# EAGLE library part TJA1050 (library can_driver)
High speed CAN transceiver Input levels compatible with 3.3 V and 5 V devices 5V supply
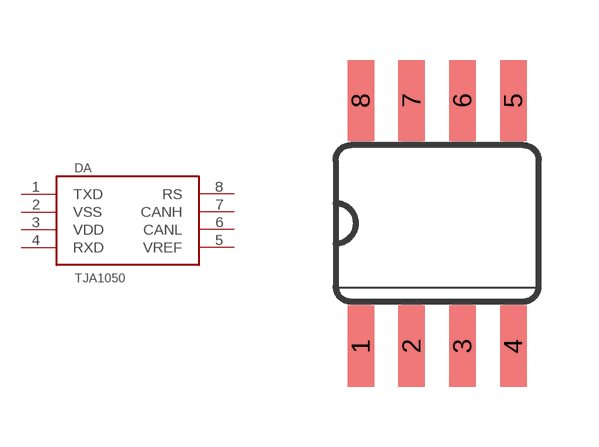
[diagram p3: symbol with the pads of SO08; footprint SO08]

Designator prefix DA

## TJA1050  [SO08]
1  TXD  in
2  VSS  pwr
3  VDD  pwr
4  RXD  out
5  VREF  pas
6  CANL
7  CANH
8  RS  in

## Footprint SO08 (pad centres in mm)
Small Outline Package
smd 0.66 x 2.032: 1 -1.905,-3.073; 2 -0.635,-3.073; 3 0.635,-3.073; 4 1.905,-3.073; 5 1.905,3.073; 6 0.635,3.073; 7 -0.635,3.073; 8 -1.905,3.073